# Altium footprint library PCB - MISC - CR1220.PCBLIB: 1 footprints
Each footprint in its own frame and in the unit in brackets; x right, y up, seen from the top. Pads: shape width x height; smd on the part's side, far side on the other; paste and mask are expansions set on the pad; w line width, h text height; cw(c..) or ccw(c..) is an arc to the next point about the centre after c.
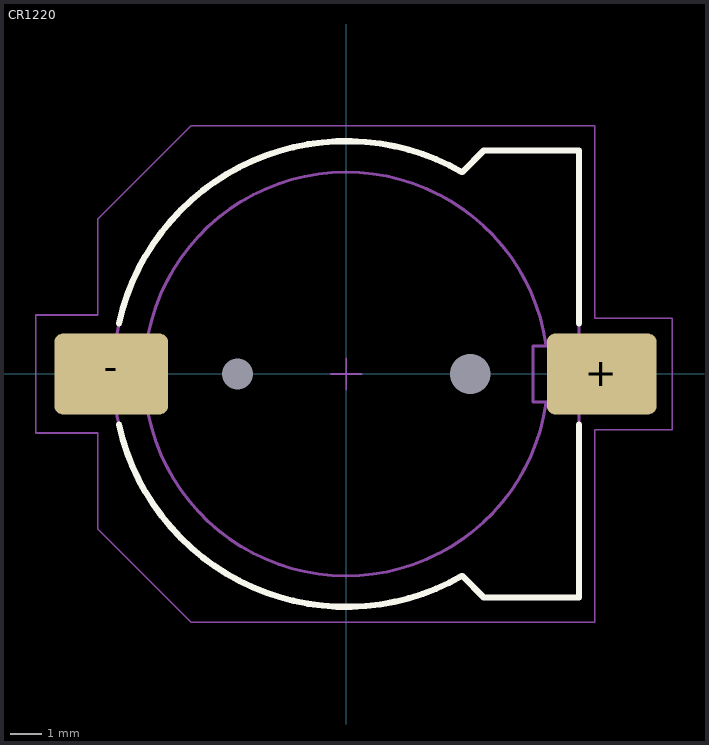
[diagram p0: the footprint, top view; thin cyan lines are the x and y axes]

## CR1220 [mm]
pads (4):
  rrect20% 3.54x2.6 smd: +(8.23,0)
  rrect20% 3.66x2.6 smd: -(-7.57,0)
  round 0 hole 1.3 unplated: H1(4,0)
  round 0 hole 1 unplated: H2(-3.5,0)
Top Overlay:
  lines w0.2: -7.322,-1.63 ccw(c0,0) 3.734,-6.506 3.736,-6.506 4.43,-7.2 7.5,-7.2 ; -7.322,1.63 cw(c0,0) 3.734,6.506 3.736,6.506 4.43,7.2 7.5,7.2 ; 7.5,-1.625 7.5,-7.2 ; 7.5,1.625 7.5,7.2 ; 7.5,-7.2 7.5,-7.2 ; 7.5,7.2 7.5,7.2
Top Assembly:
  lines w0.1: -7.45,-0.875 ccw(c0,0) 3.734,-6.506 3.736,-6.506 4.43,-7.2 ; -7.447,0.903 cw(c0,0) 3.734,6.506 3.736,6.506 4.43,7.2 ; -6.443,0.899 cw(c0,0) 6.439,0.931 ; -6.443,-0.899 ccw(c0,0) 6.439,-0.931 ; 3.73,-6.5 4.43,-7.2 ; 3.73,6.5 4.43,7.2 ; 7.5,-0.9 7.5,-7.2 ; 7.5,0.9 7.5,7.2 ; 4.43,-7.2 7.5,-7.2 ; 4.43,-7.2 7.5,-7.2 ; 4.43,7.2 7.5,7.2 ; 4.43,7.2 7.5,7.2 ; 7.5,-7.2 7.5,-7.2 ; 7.5,7.2 7.5,7.2 ; -9.27,-0.9 -6.02,-0.9 -6.02,0.9 -9.27,0.9 -9.27,-0.9 ; 6.02,-0.9 9.27,-0.9 9.27,0.9 6.02,0.9 6.02,-0.9
Top Courtyard:
  lines w0.05: 10.5,-1.8 10.5,-1.8 ; 10.5,-1.8 10.5,1.8 8,1.8 8,8 -5,8 -8,5 -8,1.9 -10,1.9 -10,-1.9 -8,-1.9 -8,-5 -5,-8 8,-8 8,-1.8 10.5,-1.8
Top Designator:
  text ".Designator" at -8.6,8.5 h2
Top Component Center:
  lines w0.05: -0.5,0 0.5,0 ; 0,-0.5 0,0.5
3D body "User Library-cr1220.STEP": height 4.04, standoff -0.9, extent -8.8,-7.498 9.7,7.498